# EAGLE library part MMA6261Q (library GW-devices)
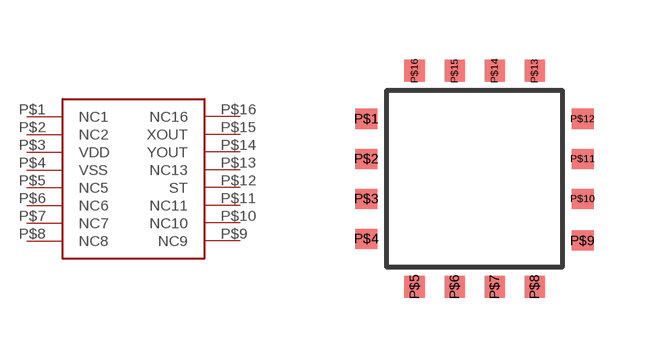
[diagram p2: symbol with the pads of QFN16; footprint QFN16]

Designator prefix -

## MMA6261Q  [QFN16]
P$1  NC1  nc
P$2  NC2  nc
P$3  VDD  pwr
P$4  VSS  pwr
P$5  NC5  nc
P$6  NC6  nc
P$7  NC7  nc
P$8  NC8  nc
P$9  NC9  nc
P$10  NC10  nc
P$11  NC11  nc
P$12  ST
P$13  NC13  nc
P$14  YOUT  out
P$15  XOUT  out
P$16  NC16  nc

## Footprint QFN16 (pad centres in mm)
smd 0.55 x 0.5: P$1 -2.7,1.5; P$2 -2.7,0.5; P$3 -2.7,-0.5; P$4 -2.7,-1.5; P$9 2.7,-1.55; P$10 2.7,-0.5; P$11 2.7,0.5; P$12 2.7,1.5
smd 0.5 x 0.55: P$5 -1.5,-2.7; P$6 -0.5,-2.7; P$7 0.5,-2.7; P$8 1.5,-2.7; P$13 1.5,2.7; P$14 0.5,2.7; P$15 -0.5,2.7; P$16 -1.5,2.7